# Altium footprint library PEC12R-4220F-S0024.PcbLib: 1 footprints
Each footprint in its own frame and in the unit in brackets; x right, y up, seen from the top. Pads: shape width x height; smd on the part's side, far side on the other; paste and mask are expansions set on the pad; w line width, h text height; cw(c..) or ccw(c..) is an arc to the next point about the centre after c.
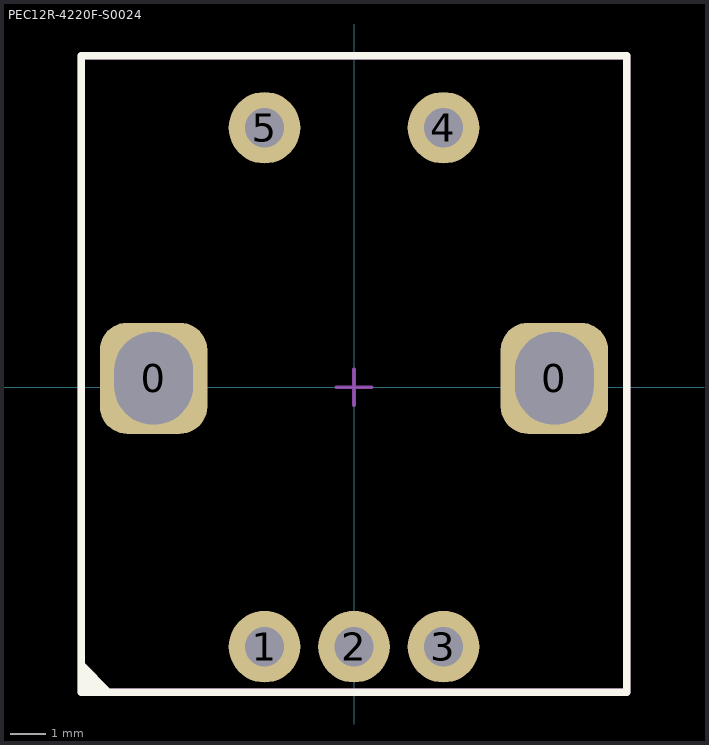
[diagram p0: the footprint, top view; thin cyan lines are the x and y axes]

## PEC12R-4220F-S0024 [mm] "Rotary encoder with switch"
height 5
pads (7):
  rrect50% 3x3.1 hole 2.2 slot 2.6 at 90 deg: 0(-5.6,0.25) 0(5.6,0.25)
  round 2 hole 1.1: 1(-2.5,-7.25) 2(0,-7.25) 3(2.5,-7.25) 4(2.5,7.25) 5(-2.5,7.25)
Top Overlay:
  region: -7.62,-8.52 -6.72,-8.52 -7.62,-7.62
  lines w0.2: -7.62,-8.52 7.62,-8.52 7.62,9.26 -7.62,9.26 -7.62,-8.52
Top Component Center:
  lines w0.1: -0.5,0 0.5,0 ; 0,-0.5 0,0.5
Top Assembly:
  lines w0.2: -7.62,-8.52 7.62,-8.52 7.62,9.26 -7.62,9.26 -7.62,-8.52
Top Courtyard:
  lines w0.2: -7.62,-8.52 7.62,-8.52 7.62,9.26 -7.62,9.26 -7.62,-8.52
3D body "User Library-PEC12-4220F-S0024-1.STEP": height 17.3, standoff -3.58, extent -6.2,-6.9 6.2,7.3